# Altium schematic symbol library SI5345B-B-GM.SchLib: 1 symbol
Pins are listed as number, name and electrical type; pins without a type are passive.

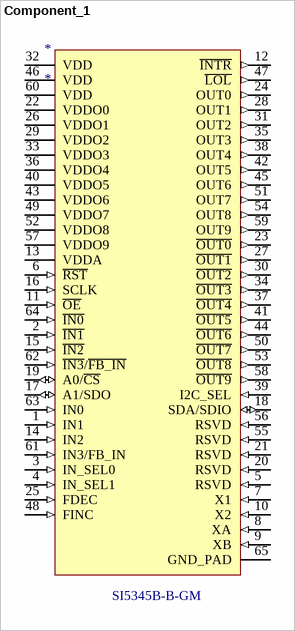
[diagram p0: symbol Component_1]

## Component_1
designator *
pins: 1 IN1 (in), 2 ~{IN1} (in), 3 IN_SEL0 (in), 4 IN_SEL1 (in), 5 RSVD (in), 6 ~{RST} (in), 7 X1 (in), 8 XA (in), 9 XB (in), 10 X2 (in), 11 ~{OE} (in), 12 ~{INTR} (out), 13 VDDA (power), 14 IN2 (in), 15 ~{IN2} (in), 16 SCLK (in), 17 A1/SDO (io), 18 SDA/SDIO (io), 19 A0/~{CS} (io), 20 RSVD (in), 21 RSVD (in), 22 VDDO0 (power), 23 ~{OUT0} (out), 24 OUT0 (out), 25 FDEC (in), 26 VDDO1 (power), 27 ~{OUT1} (out), 28 OUT1 (out), 29 VDDO2 (power), 30 ~{OUT2} (out), 31 OUT2 (out), 32 VDD (power), 33 VDDO3 (power), 34 ~{OUT3} (out), 35 OUT3 (out), 36 VDDO4 (power), 37 ~{OUT4} (out), 38 OUT4 (out), 39 I2C_SEL (in), 40 VDDO5 (power), 41 ~{OUT5} (out), 42 OUT5 (out), 43 VDDO6 (power), 44 ~{OUT6} (out), 45 OUT6 (out), 46 VDD (power), 47 ~{LOL} (out), 48 FINC (in), 49 VDDO7 (power), 50 ~{OUT7} (out), 51 OUT7 (out), 52 VDDO8 (power), 53 ~{OUT8} (out), 54 OUT8 (out), 55 RSVD (in), 56 RSVD (in), 57 VDDO9 (power), 58 ~{OUT9} (out), 59 OUT9 (out), 60 VDD (power), 61 IN3/FB_IN (in), 62 ~{IN3}/~{FB_IN} (in), 63 IN0 (in), 64 ~{IN0} (in), 65 GND_PAD (power)
text: SI5345B-B-GM